# Altium footprint library ConnecteurCAN.PcbLib: 1 footprints
Each footprint in its own frame and in the unit in brackets; x right, y up, seen from the top. Pads: shape width x height; smd on the part's side, far side on the other; paste and mask are expansions set on the pad; w line width, h text height; cw(c..) or ccw(c..) is an arc to the next point about the centre after c.
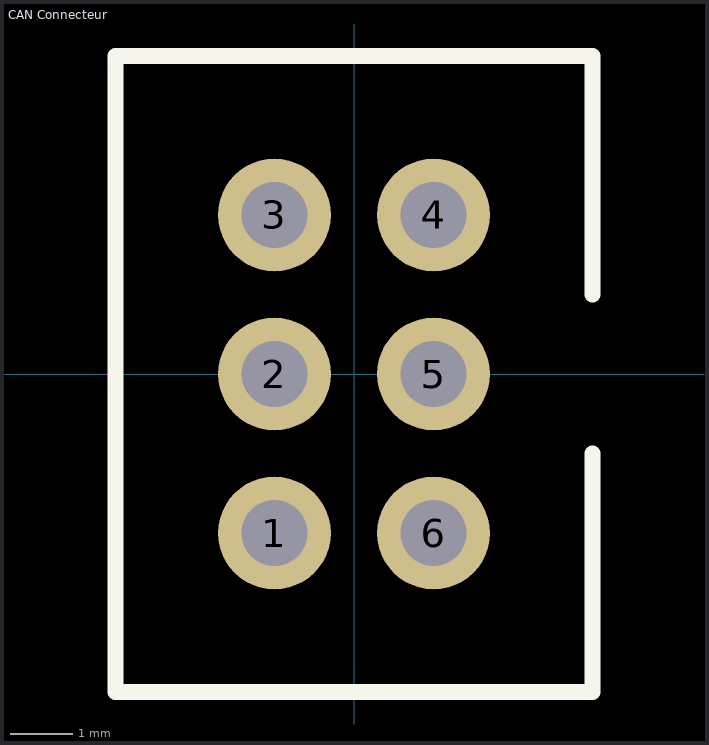
[diagram p0: the footprint, top view; thin cyan lines are the x and y axes]

## CAN Connecteur [mm]
pads (6):
  round 1.8 hole 1.05: 1(-1.27,-2.54) 2(-1.27,0) 3(-1.27,2.54) 4(1.27,2.54) 5(1.27,0) 6(1.27,-2.54)
Top Overlay:
  lines w0.254: 3.81,-1.27 3.81,-5.08 -3.81,-5.08 -3.81,5.08 3.81,5.08 3.81,1.27